# Altium footprint library NAPaC_PcbLib.PcbLib: 17 footprints (part 1 of 2)
Each footprint in its own frame and in the unit in brackets; x right, y up, seen from the top. Pads: shape width x height; smd on the part's side, far side on the other; paste and mask are expansions set on the pad; w line width, h text height; cw(c..) or ccw(c..) is an arc to the next point about the centre after c.
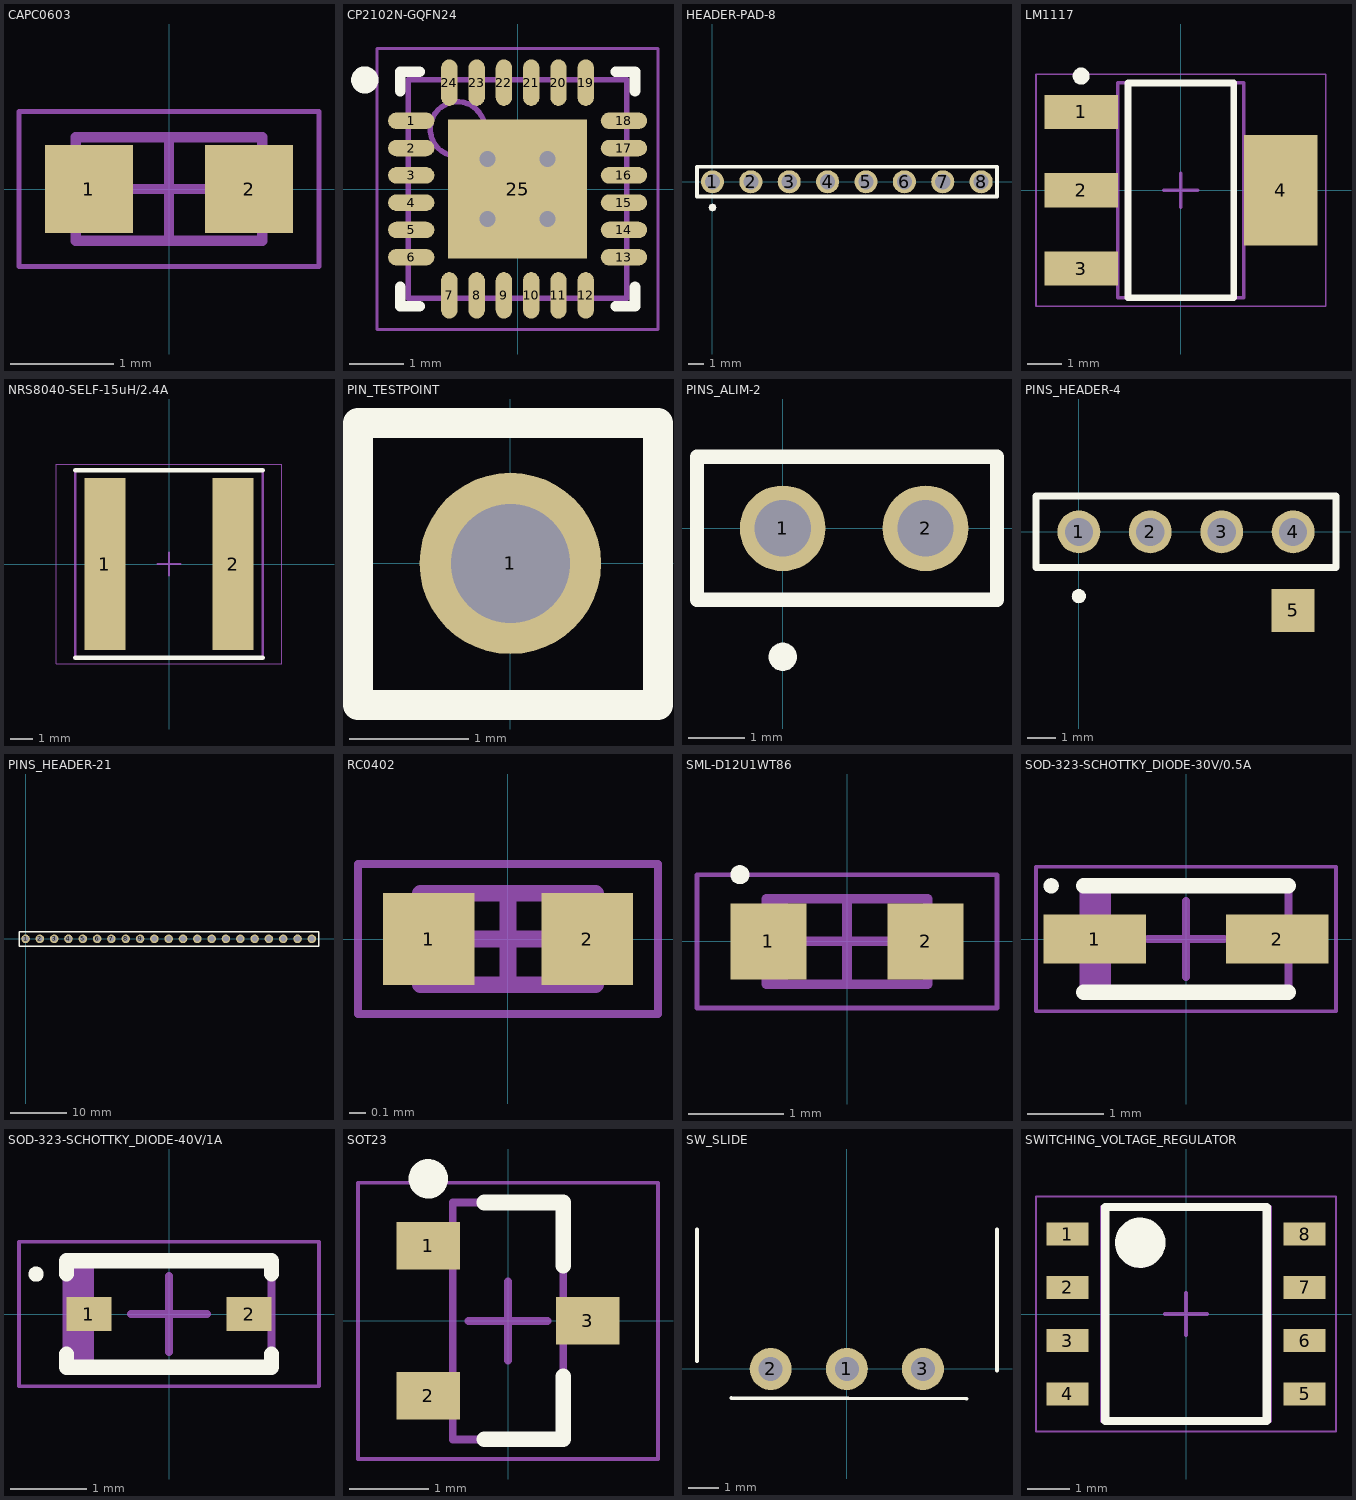
[diagram p0: the footprints below, top view; thin cyan lines are the x and y axes]

## CAPC0603 [mm] "Chip Capacitor, 2-Leads, Body 1,60x0,80mm, IPC Medium Density"
height 1
pads (2):
  rect 0.85x0.85 smd: 1(-0.775,0) 2(0.775,0)
Mechanical 13:
  lines w0.1: -0.9,-0.5 -0.9,0.5 0.9,0.5 0.9,-0.5 -0.9,-0.5
Mechanical 15:
  lines w0.05: -1.45,-0.75 -1.45,0.75 1.45,0.75 1.45,-0.75 -1.45,-0.75
  lines w0.1: -0.5,0 0.5,0 ; 0,-0.5 0,0.5
3D body "CAPC0603.step": height 1, standoff 0, extent -0.9,-0.5 0.9,0.5

## CP2102N-GQFN24 [mm] "QFN, 24-Leads, Body 4,00x4,00mm, Pitch 0,50mm, Thermal Pad 2,55x2,55mm, IPC Medium Density"
height 0.8
pads (25):
  oval 0.85x0.3 smd: 1(-1.95,1.25) 2(-1.95,0.75) 3(-1.95,0.25) 4(-1.95,-0.25) 5(-1.95,-0.75) 6(-1.95,-1.25) 13(1.95,-1.25) 14(1.95,-0.75) 15(1.95,-0.25) 16(1.95,0.25) 17(1.95,0.75) 18(1.95,1.25)
  oval 0.3x0.85 smd: 7(-1.25,-1.95) 8(-0.75,-1.95) 9(-0.25,-1.95) 10(0.25,-1.95) 11(0.75,-1.95) 12(1.25,-1.95) 19(1.25,1.95) 20(0.75,1.95) 21(0.25,1.95) 22(-0.25,1.95) 23(-0.75,1.95) 24(-1.25,1.95)
  rect 2.55x2.55 smd: 25(0,0)
via 0.55,-0.55 diameter 0.5 hole 0.3
via -0.55,-0.55 diameter 0.5 hole 0.3
via 0.55,0.55 diameter 0.5 hole 0.3
via -0.55,0.55 diameter 0.5 hole 0.3
Top Overlay:
  circle w0.25: c-2.8,2 r0.125
  lines w0.2: -2.15,-1.8 -2.15,-2.15 -1.8,-2.15 ; -2.15,1.8 -2.15,2.15 -1.8,2.15 ; 1.8,-2.15 2.15,-2.15 2.15,-1.8 ; 1.8,2.15 2.15,2.15 2.15,1.8
Mechanical 13:
  circle w0.1: c-1.1,1.1 r0.5
  lines w0.1: -2,-2 2,-2 2,2 -2,2 -2,-2
Mechanical 15:
  lines w0.05: -2.575,-2.575 2.575,-2.575 2.575,2.575 -2.575,2.575 -2.575,-2.575
  lines w0.1: -0.5,0 0.5,0 ; 0,-0.5 0,0.5
3D body "CP2102N-GQFN24.step": height 0.8, standoff 0, extent -2.01,-2.01 2.01,2.01

## HEADER-PAD-8 [mil]
pads (9):
  round 60 hole 39.37: 1(0,0) 2(100,0) 3(200,0) 4(300,0) 5(400,0) 6(500,0) 7(600,0) 8(700,0)
  round 20 on Top Overlay: ""(0,-66.93)
Top Overlay:
  lines w10: -40.31,39.37 -40.31,19.68 -40.31,-19.68 -40.31,-38.43 741.34,-38.43 ; -39.37,39.37 127.46,39.37 363.96,39.37 740.94,39.37 ; 739.37,39.37 740.94,39.37 ; 740.94,39.37 740.94,-38.43 741.34,-38.43 ; 741.34,-38.43 739.37,-38.43 741.34,-38.43

## LM1117 [mm] "SOT223, 4-Leads, Body 6,50x7,00mm (avg), Pitch 2,30mm, IPC Medium Density"
height 1.8
pads (4):
  rect 2.15x1 smd: 1(-2.925,2.3) 2(-2.925,0) 3(-2.925,-2.3)
  rect 2.15x3.25 smd: 4(2.925,0)
Top Overlay:
  circle w0.25: c-2.925,3.35 r0.125
  lines w0.2: -1.55,-3.15 -1.55,3.15 1.55,3.15 1.55,-3.15 -1.55,-3.15
Mechanical 13:
  lines w0.1: -1.85,-3.15 -1.85,3.15 1.85,3.15 1.85,-3.15 -1.85,-3.15
Mechanical 15:
  lines w0.05: -4.25,-3.4 -4.25,3.4 4.25,3.4 4.25,-3.4 -4.25,-3.4
  lines w0.1: -0.5,0 0.5,0 ; 0,-0.5 0,0.5
3D body "SOT230P700X180-4N.step": height 1.8, standoff 0, extent -3.5,-3.15 3.5,3.15

## NRS8040-SELF-15uH/2.4A [mm] "Precision Wire Wound Inductor, 2-Leads, Body 8,00x8,00mm, IPC Medium Density"
height 4
pads (2):
  rect 1.8x7.5 smd: 1(-2.8,0) 2(2.8,0)
Top Overlay:
  lines w0.2: -4.1,-4.1 4.1,-4.1 ; -4.1,4.1 4.1,4.1
Mechanical 13:
  lines w0.1: -4.1,-4.1 -4.1,4.1 4.1,4.1 4.1,-4.1 -4.1,-4.1
Mechanical 15:
  lines w0.05: -4.925,-4.35 -4.925,4.35 4.925,4.35 4.925,-4.35 -4.925,-4.35
  lines w0.1: -0.5,0 0.5,0 ; 0,-0.5 0,0.5
3D body "NRS8040.step": height 4.1, standoff 0, extent -4.1,-4 4.1,4

## PIN_TESTPOINT [mil]
pads (1):
  round 60 hole 39.37: 1(0,0)
Top Overlay:
  lines w10: -50.39,-46.85 -50.39,46.46 48.82,46.46 48.82,-46.85 -50.39,-46.85

## PINS_ALIM-2 [mil]
pads (3):
  round 60 hole 39.37: 1(0,0) 2(100,0)
  round 20 on Top Overlay: ""(0,-90)
Top Overlay:
  lines w10: -60,-50 150,-50 150,50 -60,50 -60,-50

## PINS_HEADER-4 [mil]
pads (6):
  round 60 hole 39.37: 1(0,0) 2(100,0) 3(200,0) 4(300,0)
  rect 60x60 smd: 5(300,-110)
  round 20 on Top Overlay: ""(0,-90)
Top Overlay:
  lines w10: -60,-50 -60,50 360,50 360,-50 -60,-50

## PINS_HEADER-21 [mil]
pads (21):
  round 60 hole 39.37: 1(0,0) 2(100,0) 3(200,0) 4(300,0) 5(400,0) 6(500,0) 7(600,0) 8(700,0) 9(800,0) 10(900,0) 11(1000,0) 12(1100,0) 13(1200,0) 14(1300,0) 15(1400,0) 16(1500,0) 17(1600,0) 18(1700,0) 19(1800,0) 20(1900,0) 21(2000,0)
Top Overlay:
  lines w10: -45.67,37.8 -45.67,50 -45.28,50.39 2050,50.39 2050,-51.97 -45.43,-51.97 -45.43,37.8 ; 2050,-39.76 2050,-9.45 2050,8.66 2050,38.98

## RC0402 [mm] "Chip Resistor, 2-Leads, Body 1,02x0,50mm, IPC Medium Density"
height 0.4
pads (2):
  rect 0.55x0.55 smd: 1(-0.475,0) 2(0.475,0)
Mechanical 13:
  lines w0.1: -0.525,-0.275 0.525,-0.275 0.525,0.275 -0.525,0.275 -0.525,-0.275
Mechanical 15:
  lines w0.05: -0.9,-0.45 0.9,-0.45 0.9,0.45 -0.9,0.45 -0.9,-0.45
  lines w0.1: -0.275,0 0.275,0 ; 0,-0.275 0,0.275
3D body "RESC1005X04N.step": height 0.4, standoff 0, extent -0.525,-0.275 0.525,0.275

## SML-D12U1WT86 [mm] "Molded Diode, 2-Leads, Body 1,60x0,80mm, IPC Medium Density"
height 0.65
pads (2):
  rect 0.8x0.8 smd: 1(-0.825,0) 2(0.825,0)
Top Overlay:
  circle w0.1: c-1.125,0.7 r0.05
Mechanical 13:
  rectangle: -0.85,-0.45 -0.621,0.45
  lines w0.1: -0.85,-0.45 -0.85,0.45 0.85,0.45 0.85,-0.45 -0.85,-0.45
Mechanical 15:
  lines w0.05: -1.575,-0.7 -1.575,0.7 1.575,0.7 1.575,-0.7 -1.575,-0.7
  lines w0.1: -0.45,0 0.45,0 ; 0,-0.45 0,0.45
3D body "SML-D12U1WT86.step": height 0.65, standoff 0, extent -1.07,-0.45 1.07,0.45

## SOD-323-SCHOTTKY_DIODE-30V/0.5A [mm] "Molded Diode, 2-Leads, Body 2,50x1,30mm, IPC Medium Density"
height 1.1
pads (2):
  rect 1.35x0.65 smd: 1(-1.2,0) 2(1.2,0)
Top Overlay:
  circle w0.1: c-1.775,0.7 r0.05
  lines w0.2: -1.35,-0.7 1.35,-0.7 ; -1.35,0.7 1.35,0.7
Mechanical 13:
  rectangle: -1.35,-0.7 -0.987,0.7
  lines w0.1: -1.35,-0.7 1.35,-0.7 1.35,0.7 -1.35,0.7 -1.35,-0.7
Mechanical 15:
  lines w0.05: -1.975,-0.95 1.975,-0.95 1.975,0.95 -1.975,0.95 -1.975,-0.95
  lines w0.1: -0.5,0 0.5,0 ; 0,-0.5 0,0.5
3D body "SOD-323.step": height 1.1, standoff 0, extent -1.57,-0.7 1.57,0.7

## SOD-323-SCHOTTKY_DIODE-40V/1A [mm]
pads (2):
  rect 0.59x0.45 smd: 1(-1.055,0) 2(1.055,0)
Top Overlay:
  circle w0.1: c-1.75,0.525 r0.05
  lines w0.2: -1.35,-0.525 -1.35,-0.7 1.35,-0.7 1.35,-0.525 ; -1.35,0.525 -1.35,0.7 1.35,0.7 1.35,0.525
Mechanical 13:
  rectangle: -1.35,-0.7 -0.987,0.7
  lines w0.1: -1.35,-0.7 1.35,-0.7 1.35,0.7 -1.35,0.7 -1.35,-0.7
Mechanical 15:
  lines w0.05: -1.975,-0.95 1.975,-0.95 1.975,0.95 -1.975,0.95 -1.975,-0.95
  lines w0.1: -0.5,0 0.5,0 ; 0,-0.5 0,0.5
3D body "CAPM3216X18N.step": height 1.1, standoff 0, extent -1.57,-0.7 1.57,0.7

## SOT23 [mm] "SOT23, 3-Leads, Body 2,90x2,40mm, Pitch 0,95mm, IPC Medium Density"
height 1.1
pads (3):
  rect 0.8x0.6 smd: 1(-1.01,0.95) 2(-1.01,-0.95) 3(1.01,0)
Top Overlay:
  circle w0.25: c-1.01,1.8 r0.125
  lines w0.2: -0.3,-1.5 0.7,-1.5 0.7,-0.7 ; -0.3,1.5 0.7,1.5 0.7,0.7
Mechanical 13:
  lines w0.1: -0.7,-1.5 -0.7,1.5 0.7,1.5 0.7,-1.5 -0.7,-1.5
Mechanical 15:
  lines w0.05: -1.9,-1.75 -1.9,1.75 1.9,1.75 1.9,-1.75 -1.9,-1.75
  lines w0.1: -0.5,0 0.5,0 ; 0,-0.5 0,0.5
3D body "SOT23.step": height 1.1, standoff 0, extent -1.275,-1.5 1.275,1.5

## SW_SLIDE [mm]
pads (3):
  round 1.4 hole 0.8: 1(0,0) 2(-2.54,0) 3(2.54,0)
Top Overlay:
  lines w0.127: -5,0.27 -5,4.66 ; -3.86,-0.97 3.99,-0.99 ; 5.01,-0.05 5.01,4.66
3D body "450302014072.stp": height 2.51, standoff -3.69, extent -5,-0.3 5,6.8

## SWITCHING_VOLTAGE_REGULATOR [mm]
height 1.75
pads (8):
  rect 1x0.55 smd: 1(-2.825,1.905) 2(-2.825,0.635) 3(-2.825,-0.635) 4(-2.825,-1.905) 5(2.825,-1.905) 6(2.825,-0.635) 7(2.825,0.635) 8(2.825,1.905)
Top Overlay:
  circle w0.6: c-1.09,1.7 r0.3
  lines w0.2: -1.925,-2.55 1.925,-2.55 1.925,2.55 -1.925,2.55 -1.925,-2.55
Mechanical 13:
  circle w0.1: c-1.1,1.65 r0.5
  lines w0.1: -2,-2.55 2,-2.55 2,2.55 -2,2.55 -2,-2.55
Mechanical 15:
  lines w0.05: -3.575,-2.8 3.575,-2.8 3.575,2.8 -3.575,2.8 -3.575,-2.8
  lines w0.1: -0.5,0 0.5,0 ; 0,-0.5 0,0.5
3D body "SOP127P600-8N.step": height 1.75, standoff 0, extent -3.025,-2.55 3.025,2.55